# Altium schematic symbol library RP3_V302.SchLib: 44 symbols (part 2 of 2)
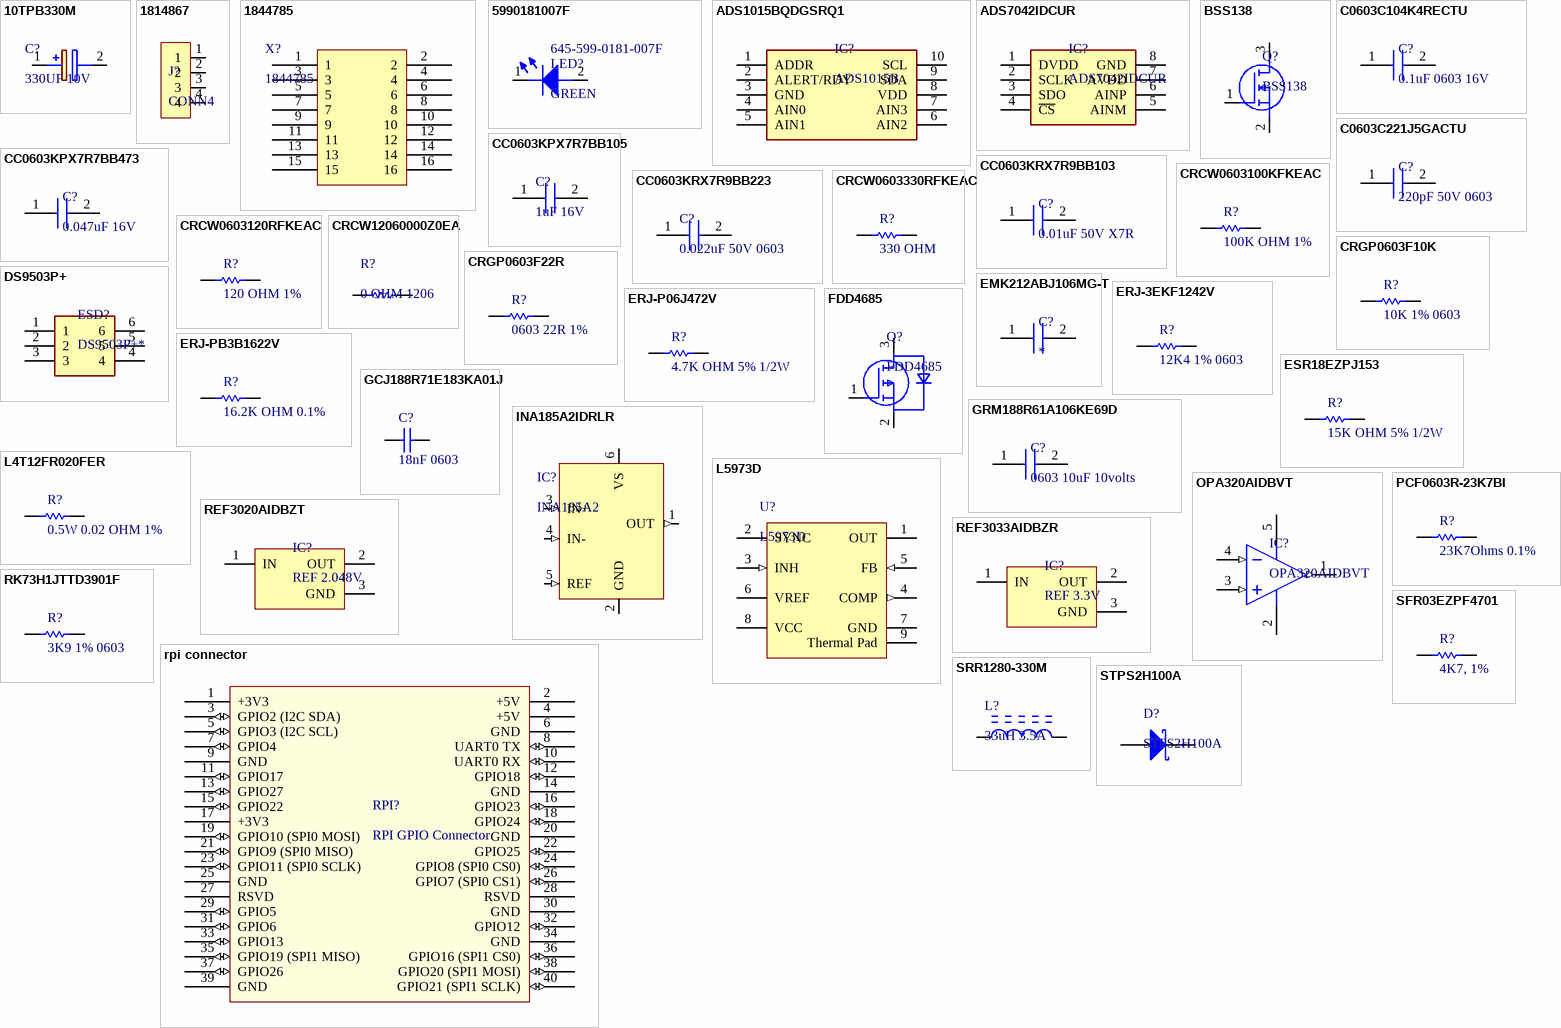
[diagram p2: symbols 10TPB330M to STPS2H100A]

## OPA320AIDBVT
designator IC?
IC OPAMP GP 20MHZ RRO SOT23-5; Manufacturer: Texas Instruments; Output Current: 65mA; Min Supply Voltage: 1.8V; Nominal Supply Current: 1.45mA; Max Supply Voltage: 5.5V; Min Dual Supply Voltage: 900mV; Max Dual Supply Voltage: 2.75V; Voltage Gain: 132dB; Common Mode Rejection Ratio: 100dB; Number of Channels: 1; Slew Rate: 10V/µs; Max I/O Voltage: 150uV; Input Bias Current: 0.9pA; Operating Supply Current: 1.5mA; Power Supply Rejection Ratio (PSRR): 106.02dB; Max Frequency: 1MHz; Supplier 1: Mouser; Manufacturer Part Number: OPA320AIDBVT; RoHS: Yes; Category: Amplifiers - Op Amps, Buffer, Instrumentation; Stock 1: 2279; Pricing 1: 1=2.39000, 10=2.03000, 100=1.62000, 500=1.42000, 1000=1.18000, 2500=1.10000, 5000=1.06000, 10000=1.02000 (USD); Case/Package: SOT-23; Number of Pins: 5; Contact Plating: Gold; Min Operating Temperature: -40°C; Max Operating Temperature: 125°C; Packaging: Tape and Reel; Unity Gain Bandwidth Product: 20MHz; Bandwidth: 20MHz; Package Quantity: 1; Operating Supply Voltage: 2.75V; Number of Circuits: 1; Gain Bandwidth Product: 20MHz; Input Offset Voltage (Vos): 150uV; Output Current per Channel: 65mA; Number of Elements: 1; Number of Amplifiers: 1; Length: 3.05mm; Height: 1.3mm; Width: 1.75mm; Radiation Hardening: No; REACH SVHC: No SVHC; Lead Free: Lead Free; ComponentLink1URL: https://datasheet.ciiva.com/1803/opa320-1803664.pdf?src-supplier=Digi-Key; ComponentLink1Description: https://datasheet.ciiva.com/1803/opa320-1803664.pdf?src-supplier=Digi-Key; ComponentLink2URL: https://datasheet.ciiva.com/7219/1481236-7219755.pdf?src-supplier=Newark; ComponentLink2Description: https://datasheet.ciiva.com/7219/1481236-7219755.pdf?src-supplier=Newark; ComponentLink3URL: https://datasheet.ciiva.com/1803/opa320-1803665.pdf?src-supplier=Digi-Key; ComponentLink3Description: https://datasheet.ciiva.com/1803/opa320-1803665.pdf?src-supplier=Digi-Key; ComponentLink4URL: https://datasheet.ciiva.com/1803/opa320-1803666.pdf?src-supplier=Digi-Key; ComponentLink4Description: https://datasheet.ciiva.com/1803/opa320-1803666.pdf?src-supplier=Digi-Key; ComponentLink5URL: https://datasheet.ciiva.com/46439/1634005-46439733.pdf?src-supplier=Element14; ComponentLink5Description: https://datasheet.ciiva.com/46439/1634005-46439733.pdf?src-supplier=Element14; Supplier Part Number 1: 595-OPA320AIDBVT
footprint DBV0005A_L (SOT23, 5-Leads, Body 3.05x1.75mm, Pitch 0.95mm, IPC High Density)
footprint DBV0005A_M (SOT23, 5-Leads, Body 3.05x1.75mm, Pitch 0.95mm, IPC Low Density)
footprint DBV0005A_N (SOT23, 5-Leads, Body 3.05x1.75mm, Pitch 0.95mm, IPC Medium Density)
pins: 1 OUT (out), 2 V- (power), 3 IN+ (in), 4 IN- (in), 5 V+ (power)

## PCF0603R-23K7BI
designator R?, comment 23K7Ohms 0.1%
Thin Film Resistors - SMD 0603 23K7Ohms 0.1% 25 PPM; Manufacturer: TT Electronics; Manufacturer Part Number: PCF0603R-23K7BI; Supplier 1: Mouser; RoHS: No; Stock 1: 7591; Pricing 1: 1=0.17000, 50=0.14000, 100=0.11200, 500=0.10300, 1000=0.08300, 2000=0.07700 (USD); Supplier Part Number 1: 756-PCF0603R23K7BI
footprint RESC1608X55X30NL10T20_B (Chip Resistor, 2-Leads, Body 1.7x0.95mm, IPC Medium Density)
pins: 1, 2

## REF3020AIDBZT
designator IC?, comment REF 2.048V
IC VREF SERIES 2.048V SOT23-3; Manufacturer: Texas Instruments; Manufacturer Part Number: REF3020AIDBZT; Min Input Voltage: 2.098V; Max Input Voltage: 5.5V; Tolerance: 0.2%; Operating Supply Current: 42uA; Max Supply Current: 50uA; Temperature Coefficient: 50ppm/°C; Output Current: 25mA; Min Output Voltage: 2.044V; Reference Type: Series,Fixed; Number of Channels: 1; Supplier 1: Mouser; RoHS: Yes; Category: Voltage References; Stock 1: 3604; Pricing 1: 1=1.60000, 10=1.36000, 100=1.05000, 500=0.92400, 1000=0.72900, 2500=0.64700, 10000=0.62300, 25000=0.60300, 50000=0.58400 (USD); Case/Package: SOT-23; Number of Pins: 3; Weight: 0.050717oz; Min Operating Temperature: -40°C; Max Operating Temperature: 125°C; Package Quantity: 1; Packaging: Tape and Reel; Output Voltage: 2.048V; Quiescent Current: 50uA; Max Output Current: 25mA; Reference Voltage: 2.048V; Max Output Voltage: 2.048V; Termination: SMD/SMT; Length: 2.92mm; Height: 1mm; Width: 1.3mm; Radiation Hardening: No; REACH SVHC: No SVHC; Lead Free: Lead Free; ComponentLink1URL: https://datasheet.ciiva.com/3235/ref3033-3235536.pdf?src-supplier=Avnet; ComponentLink1Description: https://datasheet.ciiva.com/3235/ref3033-3235536.pdf?src-supplier=Avnet; ComponentLink2URL: https://datasheet.ciiva.com/8055/1446366-8055264.pdf?src-supplier=Element14; ComponentLink2Description: https://datasheet.ciiva.com/8055/1446366-8055264.pdf?src-supplier=Element14; ComponentLink3URL: https://datasheet.ciiva.com/26888/ref3020aidbzt-26888236.pdf?src-supplier=IIIC; ComponentLink3Description: https://datasheet.ciiva.com/26888/ref3020aidbzt-26888236.pdf?src-supplier=IIIC; ComponentLink4URL: https://datasheet.ciiva.com/15149/getdatasheetpartid-238168-15149132.pdf?src-supplier=Verical; ComponentLink4Description: https://datasheet.ciiva.com/15149/getdatasheetpartid-238168-15149132.pdf?src-supplier=Verical; ComponentLink5URL: https://datasheet.ciiva.com/46383/1446366-46383050.pdf?src-supplier=Element14; ComponentLink5Description: https://datasheet.ciiva.com/46383/1446366-46383050.pdf?src-supplier=Element14; ComponentLink6URL: https://datasheet.ciiva.com/2009/ref3012-2009132.pdf?src-supplier=Digi-Key; ComponentLink6Description: https://datasheet.ciiva.com/2009/ref3012-2009132.pdf?src-supplier=Digi-Key; ComponentLink7URL: https://datasheet.ciiva.com/2009/ref3012-2009133.pdf?src-supplier=Digi-Key; ComponentLink7Description: https://datasheet.ciiva.com/2009/ref3012-2009133.pdf?src-supplier=Digi-Key; ComponentLink8URL: https://datasheet.ciiva.com/2009/ref3012-2009134.pdf?src-supplier=Digi-Key; ComponentLink8Description: https://datasheet.ciiva.com/2009/ref3012-2009134.pdf?src-supplier=Digi-Key; Supplier Part Number 1: 595-REF3020AIDBZT
footprint DBZ0003A_L (SOT23, 3-Leads, Body 3.04x1.4mm, Pitch 0.95mm, IPC High Density)
footprint DBZ0003A_M (SOT23, 3-Leads, Body 3.04x1.4mm, Pitch 0.95mm, IPC Low Density)
footprint DBZ0003A_N (SOT23, 3-Leads, Body 3.04x1.4mm, Pitch 0.95mm, IPC Medium Density)
pins: 1 IN (power), 2 OUT (power), 3 GND (power)

## REF3033AIDBZR
designator IC?, comment REF 3.3V
IC VREF SERIES 3.3V SOT23-3; Manufacturer: Texas Instruments; Manufacturer Part Number: REF3033AIDBZR; Max Input Voltage: 5.5V; Min Input Voltage: 3.35V; Tolerance: 0.2%; Output Current: 25mA; Temperature Coefficient: 50ppm/°C; Operating Supply Current: 50uA; Quiescent Current: 42uA; Output Type: Fixed; Number of Channels: 1; Supplier 1: Mouser; RoHS: Yes; Category: Voltage References; Stock 1: 9359; Pricing 1: 1=1.39000, 10=1.18000, 100=0.90800, 500=0.80200, 1000=0.63300, 3000=0.56200, 9000=0.54100, 24000=0.52400, 45000=0.50700 (USD); Case/Package: SOT-23; Number of Pins: 3; Weight: 0.050717oz; Min Operating Temperature: -40°C; Max Operating Temperature: 125°C; Packaging: Tape and Reel; Output Voltage: 3.3V; Package Quantity: 1; Min Output Voltage: 3.3V; Max Supply Current: 50uA; Max Output Current: 25mA; Max Output Voltage: 3.3V; Reference Type: Series; Reference Voltage: 3.3V; Length: 2.92mm; Height: 1mm; Width: 1.3mm; Radiation Hardening: No; Lead Free: Lead Free; REACH SVHC: No SVHC; ComponentLink1URL: https://datasheet.ciiva.com/14197/sbvs032f-14197720.pdf?src-supplier=Avnet; ComponentLink1Description: https://datasheet.ciiva.com/14197/sbvs032f-14197720.pdf?src-supplier=Avnet; ComponentLink2URL: https://datasheet.ciiva.com/26245/sbvs032f-26245055.pdf?src-supplier=Avnet+Europe; ComponentLink2Description: https://datasheet.ciiva.com/26245/sbvs032f-26245055.pdf?src-supplier=Avnet+Europe; ComponentLink3URL: https://datasheet.ciiva.com/46382/1446366-46382975.pdf?src-supplier=Element14; ComponentLink3Description: https://datasheet.ciiva.com/46382/1446366-46382975.pdf?src-supplier=Element14; ComponentLink4URL: https://datasheet.ciiva.com/2012/ref3012-2012421.pdf?src-supplier=Digi-Key; ComponentLink4Description: https://datasheet.ciiva.com/2012/ref3012-2012421.pdf?src-supplier=Digi-Key; ComponentLink5URL: https://datasheet.ciiva.com/2012/ref3012-2012422.pdf?src-supplier=Digi-Key; ComponentLink5Description: https://datasheet.ciiva.com/2012/ref3012-2012422.pdf?src-supplier=Digi-Key; ComponentLink6URL: https://datasheet.ciiva.com/2012/ref3012-2012423.pdf?src-supplier=Digi-Key; ComponentLink6Description: https://datasheet.ciiva.com/2012/ref3012-2012423.pdf?src-supplier=Digi-Key; ComponentLink7URL: https://datasheet.ciiva.com/8055/1446366-8055449.pdf?src-supplier=Element14; ComponentLink7Description: https://datasheet.ciiva.com/8055/1446366-8055449.pdf?src-supplier=Element14; ComponentLink8URL: https://datasheet.ciiva.com/41462/001014452-da-01-en-ic-vref-series-p-ref3033aidbzr-sot-3-tid-41462309.pdf?src-supplier=Conrad; ComponentLink8Description: https://datasheet.ciiva.com/41462/001014452-da-01-en-ic-vref-series-p-ref3033aidbzr-sot-3-tid-41462309.pdf?src-supplier=Conrad; Supplier Part Number 1: 595-REF3033AIDBZR
footprint DBZ0003A_L (SOT23, 3-Leads, Body 3.04x1.4mm, Pitch 0.95mm, IPC High Density)
footprint DBZ0003A_M (SOT23, 3-Leads, Body 3.04x1.4mm, Pitch 0.95mm, IPC Low Density)
footprint DBZ0003A_N (SOT23, 3-Leads, Body 3.04x1.4mm, Pitch 0.95mm, IPC Medium Density)
pins: 1 IN (power), 2 OUT (power), 3 GND (power)

## RK73H1JTTD3901F
designator R?, comment 3K9 1% 0603
RES 1/10watt 3.9Kohms 1%; Manufacturer: KOA Speer; Manufacturer Part Number: RK73H1JTTD3901F; Resistance: 3.9kR; Power Rating: 100mW; Voltage Rating: 50V; Temperature Coefficient: 100ppm/°C; Supplier 1: Digi-Key; RoHS: Yes; Category: Chip SMD Resistors; Stock 1: 130642; Pricing 1: 1=0.10000, 10=0.02200, 100=0.00910, 1000=0.00408, 2500=0.00354 (USD); Case/Package: 0603; Number of Pins: 2; Case Code (Imperial): 0603; Case Code (Metric): 1608; Min Operating Temperature: -55°C; Max Operating Temperature: 155°C; Tolerance: 1%; Packaging: Tape and Reel; Package Quantity: 5000; Composition: Thick Film; Termination: SMD/SMT; Military Standard: Not; Voltage Rating (DC): 50V; Length: 1.6mm; Height: 0.45mm; Width: 0.8mm; Depth: 0.8mm; REACH SVHC: Unknown; Lead Free: Lead Free; ComponentLink1URL: https://datasheet.ciiva.com/7773/549017-7773384.pdf?src-supplier=Element14; ComponentLink1Description: https://datasheet.ciiva.com/7773/549017-7773384.pdf?src-supplier=Element14; ComponentLink2URL: https://datasheet.ciiva.com/48426/rk73h-series-eng-jap-tds-48426598.pdf?src-supplier=Distrelec; ComponentLink2Description: https://datasheet.ciiva.com/48426/rk73h-series-eng-jap-tds-48426598.pdf?src-supplier=Distrelec; ComponentLink3URL: https://datasheet.ciiva.com/5554/rk73h-5554025.pdf?src-supplier=Mouser; ComponentLink3Description: https://datasheet.ciiva.com/5554/rk73h-5554025.pdf?src-supplier=Mouser; Supplier Part Number 1: 2019-RK73H1JTTD3901FCT-ND
footprint RESC1608X55X30NL10T20_B (Chip Resistor, 2-Leads, Body 1.7x0.95mm, IPC Medium Density)
pins: 1, 2

## rpi connector
designator RPI?, comment RPI GPIO Connector
GPIO Header for Raspberry Pi A+/B+/Pi 2/Pi 3 - 2x20; Manufacturer: SparkFun Electronics; Manufacturer Part Number: PRT-14017; Nils Minor: author; nilsminor@web.de: mail; RoHS: RoHS Compliant; Category: Development Boards, Kits, Programmers; Stock 1: 150; Pricing 1: 1=1.84 (EUR); Part Status: Active; Accessory Type: Connector; For Use With/Related Products: Raspberry Pi; ComponentLink1URL: https://cdn.sparkfun.com/datasheets/Dev/RaspberryPi/12313.pdf; ComponentLink1Description: https://cdn.sparkfun.com/datasheets/Dev/RaspberryPi/12313.pdf; Supplier 1: Digi-Key; Supplier Part Number 1: 1568-1462-ND; Supplier 2: Mouser; Supplier Part Number 2: 855-M20-7832046
footprint RPI_HEADER
pins: 1 +3V3 (power), 2 +5V (power), 3 GPIO2 (I2C SDA) (io), 4 +5V (power), 5 GPIO3 (I2C SCL) (io), 6 GND (power), 7 GPIO4 (io), 8 UART0 TX (io), 9 GND (power), 10 UART0 RX (io), 11 GPIO17 (io), 12 GPIO18 (io), 13 GPIO27 (io), 14 GND (power), 15 GPIO22 (io), 16 GPIO23 (io), 17 +3V3 (power), 18 GPIO24 (io), 19 GPIO10 (SPI0 MOSI) (io), 20 GND (power), 21 GPIO9 (SPI0 MISO) (io), 22 GPIO25 (io), 23 GPIO11 (SPI0 SCLK) (io), 24 GPIO8 (SPI0 CS0) (io), 25 GND (power), 26 GPIO7 (SPI0 CS1) (io), 27 RSVD, 28 RSVD, 29 GPIO5 (io), 30 GND (power), 31 GPIO6 (io), 32 GPIO12 (io), 33 GPIO13 (io), 34 GND, 35 GPIO19 (SPI1 MISO) (io), 36 GPIO16 (SPI1 CS0) (io), 37 GPIO26 (io), 38 GPIO20 (SPI1 MOSI) (io), 39 GND (power), 40 GPIO21 (SPI1 SCLK) (io)

## SFR03EZPF4701
designator R?, comment 4K7, 1%
ROHM -  4K7, 1%, 0603; Manufacturer Part Number: SFR03EZPF4701; Resistance: 4.7kR; Max Power Dissipation: 100mW; Temperature Coefficient: 100ppm/°C; Supplier 1: Mouser; Manufacturer: Rohm; RoHS: No; Category: Chip SMD Resistors; Stock 1: 19541; Pricing 1: 1=0.10000, 10=0.07900, 100=0.02800, 1000=0.01900, 5000=0.01500, 10000=0.01300, 25000=0.01100, 50000=0.01000, 100000=0.00900 (USD); Case/Package: 0603; Case Code (Imperial): 0603; Case Code (Metric): 1608; Min Operating Temperature: -55°C; Max Operating Temperature: 155°C; Composition: Thick Film,Metal Element; Features: Anti-Sulfur; Packaging: Tape and Reel; Tolerance: 1%; Number of Terminations: 2; ComponentLink1URL: http://www.farnell.com/datasheets/2611943.pdf?src-supplier=Farnell; ComponentLink1Description: http://www.farnell.com/datasheets/2611943.pdf?src-supplier=Farnell; ComponentLink2URL: https://www.rohm.com/datasheet/SFR03EZPF/sfr-e?src-supplier=Digi-Key; ComponentLink2Description: https://www.rohm.com/datasheet/SFR03EZPF/sfr-e?src-supplier=Digi-Key; ComponentLink3URL: http://www.farnell.com/datasheets/2611943.pdf?src-supplier=Newark; ComponentLink3Description: http://www.farnell.com/datasheets/2611943.pdf?src-supplier=Newark; Supplier Part Number 1: 755-SFR03EZPF4701
footprint RESC1608X55X30NL10T20_B (Chip Resistor, 2-Leads, Body 1.7x0.95mm, IPC Medium Density)
pins: 1, 2

## SRR1280-330M
designator L?, comment 33uH 3.5A
Ind Power Shielded Wirewound 33uH 20% 100KHz 28Q-Factor Ferrite 3.5A T/R; Manufacturer: Bourns; Manufacturer Part Number: SRR1280-330M; Material: Steel; DC Resistance (DCR): 57mR; Saturation Current: 3.3A; Self Resonant Frequency: 9.5MHz; Q Factor: 28; Supplier 1: Mouser; Supplier Part Number 1: 652-SRR1280-330M; RoHS: Yes; Category: Fixed Inductors; Stock 1: 20595; Pricing 1: 1=0.90000, 10=0.89800, 25=0.85400, 50=0.71300, 100=0.66800, 250=0.59800, 400=0.51200, 800=0.44600, 2400=0.42300 (USD); Mount: Surface Mount; Case/Package: Nonstandard; Number of Pins: 2; Core Material: Ferrite; Min Operating Temperature: -40°C; Max Operating Temperature: 125°C; Tolerance: 20%; Inductance: 33uH; Max DC Current: 3.5A; Package Quantity: 400; Current Rating: 3.5A; Shielding: Shielded; Packaging: Tape and Reel; Test Frequency: 100kHz; Termination: SMD/SMT; Composition: Wirewound; Military Standard: Not; DC Current: 3.5A; Inductance Tolerance: 20%; RMS Current (Irms): 3.5A; Resistance: 57MR; Frequency: 9.5MHz; Length: 12.5mm; Height: 7.5mm; Width: 12.5mm; Depth: 12.8mm; Height - Seated (Max): 0.315inch; Radiation Hardening: No; REACH SVHC: No SVHC; ComponentLink1URL: https://datasheet.ciiva.com/11799/0900766b80ddd400-11799870.pdf?src-supplier=RSComponents; ComponentLink1Description: https://datasheet.ciiva.com/11799/0900766b80ddd400-11799870.pdf?src-supplier=RSComponents; ComponentLink2URL: https://datasheet.ciiva.com/17112/70277071-17112985.pdf?src-supplier=Allied+Electronics; ComponentLink2Description: https://datasheet.ciiva.com/17112/70277071-17112985.pdf?src-supplier=Allied+Electronics; ComponentLink3URL: https://datasheet.ciiva.com/8512/srr1280-8512893.pdf?src-supplier=Avnet; ComponentLink3Description: https://datasheet.ciiva.com/8512/srr1280-8512893.pdf?src-supplier=Avnet; ComponentLink4URL: https://datasheet.ciiva.com/17285/srr1280-17285215.pdf?src-supplier=Avnet+Europe; ComponentLink4Description: https://datasheet.ciiva.com/17285/srr1280-17285215.pdf?src-supplier=Avnet+Europe; ComponentLink5URL: https://datasheet.ciiva.com/48488/srr1280-48488287.pdf?src-supplier=Avnet; ComponentLink5Description: https://datasheet.ciiva.com/48488/srr1280-48488287.pdf?src-supplier=Avnet; ComponentLink6URL: https://datasheet.ciiva.com/6696/srr1280-6696735.pdf?src-supplier=Digi-Key; ComponentLink6Description: https://datasheet.ciiva.com/6696/srr1280-6696735.pdf?src-supplier=Digi-Key; ComponentLink7URL: https://datasheet.ciiva.com/30162/srr1280-30162751.pdf?src-supplier=Onlinecomponents.com; ComponentLink7Description: https://datasheet.ciiva.com/30162/srr1280-30162751.pdf?src-supplier=Onlinecomponents.com
footprint BOUR-SRR1280-2_V (SMD, 2-Leads, Body 12.5x12.5mm)
pins: 1, 2

## STPS2H100A
designator D?
DIODE SCHOTTKY 100V 2A SMA; Manufacturer: STMicroelectronics; Peak Reverse Current: 1uA; Peak Non-Repetitive Surge Current: 75A; Element Configuration: Single; Forward Voltage: 650mV; Polarity: Standard; Supplier 1: Mouser; Supplier Part Number 1: 511-STPS2H100A; Manufacturer Part Number: STPS2H100A; RoHS: Yes; Category: Schottky Diodes; Stock 1: 26255; Pricing 1: 1=0.45000, 10=0.36600, 100=0.22300, 1000=0.17300, 5000=0.14700, 10000=0.13700, 25000=0.13000, 50000=0.12700, 100000=0.12200 (USD); Mount: Surface Mount; Case/Package: SMA; Number of Pins: 2; Weight: 0.01lb; Contact Plating: Tin,Matte; Min Operating Temperature: -65°C; Max Operating Temperature: 175°C; Forward Current: 2A; Max Repetitive Reverse Voltage (Vrrm): 100V; Package Quantity: 5000; Packaging: Tape and Reel; Average Rectified Current: 2A; Max Forward Surge Current (Ifsm): 75A; Max Reverse Voltage (DC): 100V; Max Surge Current: 75A; Max Reverse Leakage Current: 1uA; Voltage Rating (DC): 100V; Output Current: 2A; Current Rating: 2A; Length: 4.6mm; Height: 2.03mm; Width: 2.95mm; Radiation Hardening: No; REACH SVHC: No SVHC; Lead Free: Lead Free; ComponentLink1URL: https://datasheet.ciiva.com/14178/cd00001548-14178421.pdf?src-supplier=Distrelec; ComponentLink1Description: https://datasheet.ciiva.com/14178/cd00001548-14178421.pdf?src-supplier=Distrelec; ComponentLink2URL: https://datasheet.ciiva.com/26788/stps2h100a-26788632.pdf?src-supplier=IIIC; ComponentLink2Description: https://datasheet.ciiva.com/26788/stps2h100a-26788632.pdf?src-supplier=IIIC; ComponentLink3URL: https://datasheet.ciiva.com/916/cd00001548-916177.pdf?src-supplier=Digi-Key; ComponentLink3Description: https://datasheet.ciiva.com/916/cd00001548-916177.pdf?src-supplier=Digi-Key; ComponentLink4URL: https://datasheet.ciiva.com/916/cd00001548-916178.pdf?src-supplier=Digi-Key; ComponentLink4Description: https://datasheet.ciiva.com/916/cd00001548-916178.pdf?src-supplier=Digi-Key; ComponentLink5URL: https://datasheet.ciiva.com/916/cd00001548-916179.pdf?src-supplier=Digi-Key; ComponentLink5Description: https://datasheet.ciiva.com/916/cd00001548-916179.pdf?src-supplier=Digi-Key; ComponentLink6URL: https://datasheet.ciiva.com/7963/1724011-7963926.pdf?src-supplier=Element14; ComponentLink6Description: https://datasheet.ciiva.com/7963/1724011-7963926.pdf?src-supplier=Element14; ComponentLink7URL: https://datasheet.ciiva.com/7963/1724011-7963927.pdf?src-supplier=Element14; ComponentLink7Description: https://datasheet.ciiva.com/7963/1724011-7963927.pdf?src-supplier=Element14; ComponentLink8URL: https://datasheet.ciiva.com/16394/cd00001548-16394856.pdf?src-supplier=Future+Electronics; ComponentLink8Description: https://datasheet.ciiva.com/16394/cd00001548-16394856.pdf?src-supplier=Future+Electronics
footprint STM-SMA-2_V (Diode, 2-Leads, Body 4.6x2.9mm)
pins: 1 A, 2 K

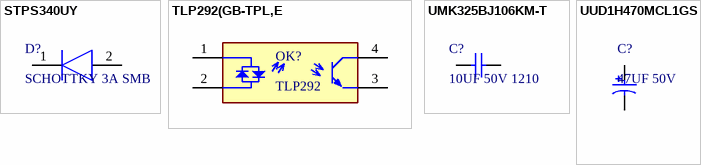
[diagram p1: symbols STPS340UY to UUD1H470MCL1GS]

## STPS340UY
designator D?, comment SCHOTTKY 3A SMB
DIODE SCHOTTKY 40V 3A SMB; Manufacturer_Name: STMicroelectronics; Manufacturer_Part_Number: STPS340UY; Peak Reverse Current: 20uA; Peak Non-Repetitive Surge Current: 75A; Element Configuration: Single; Forward Voltage: 840mV; Max Reverse Leakage Current: 10mA; Datasheet Link: https://ms.componentsearchengine.com/Datasheets/2/STPS340UY.pdf; Height: 2.65mm; Supplier 1: Mouser; Supplier Part Number 1: 511-STPS340UY; Manufacturer: STMicroelectronics; Manufacturer Part Number: STPS340UY; RoHS: Yes; Category: Rectifier Diodes; Stock 1: 8864; Pricing 1: 1=0.76000, 10=0.62700, 100=0.40400, 1000=0.32400, 2500=0.27300, 10000=0.26300, 25000=0.25300, 50000=0.24900, 100000=0.24300 (USD); Mount: Surface Mount; Case/Package: SMB; Number of Pins: 2; Min Operating Temperature: -40°C; Max Operating Temperature: 150°C; Forward Current: 3A; Max Repetitive Reverse Voltage (Vrrm): 40V; Max Surge Current: 75A; Packaging: Tape and Reel; Package Quantity: 1; Average Rectified Current: 3A; Max Reverse Voltage (DC): 40V; Radiation Hardening: No; Lead Free: Lead Free; ComponentLink1URL: https://datasheet.ciiva.com/25949/cd00270569-25949389.pdf?src-supplier=Avnet+Europe; ComponentLink1Description: https://datasheet.ciiva.com/25949/cd00270569-25949389.pdf?src-supplier=Avnet+Europe; ComponentLink2URL: https://datasheet.ciiva.com/13083/cd00270569-13083318.pdf?src-supplier=Mouser; ComponentLink2Description: https://datasheet.ciiva.com/13083/cd00270569-13083318.pdf?src-supplier=Mouser; ComponentLink3URL: https://datasheet.ciiva.com/6381/cd00270569-6381594.pdf?src-supplier=Digi-Key; ComponentLink3Description: https://datasheet.ciiva.com/6381/cd00270569-6381594.pdf?src-supplier=Digi-Key; ComponentLink4URL: https://datasheet.ciiva.com/6381/cd00270569-6381595.pdf?src-supplier=Digi-Key; ComponentLink4Description: https://datasheet.ciiva.com/6381/cd00270569-6381595.pdf?src-supplier=Digi-Key; ComponentLink5URL: https://datasheet.ciiva.com/6381/cd00270569-6381596.pdf?src-supplier=Digi-Key; ComponentLink5Description: https://datasheet.ciiva.com/6381/cd00270569-6381596.pdf?src-supplier=Digi-Key
footprint DIOM5436X265N
pins: 1 K, 2 A

## TLP292(GB-TPL,E
designator OK?, comment TLP292
OPTOISOLATOR 3.75KV TRANS 4-SO; Manufacturer: Toshiba; Manufacturer Part Number: TLP292(GB-TPL,E; Collector Emitter Voltage (VCEO): 300mV; Number of Channels: 1; Forward Voltage: 1.25V; Max Output Voltage: 80V; Output Current per Channel: 50mA; Max Power Dissipation: 200mW; Supplier 1: Mouser; RoHS: Yes; Category: Optocouplers; Stock 1: 22194; Pricing 1: 1=0.60000, 10=0.35200, 100=0.23800, 500=0.20300, 1000=0.15900, 2500=0.13200, 10000=0.12400, 25000=0.11900, 50000=0.11500 (USD); Mount: Surface Mount; Case/Package: SO; Number of Pins: 4; Min Operating Temperature: -55°C; Max Operating Temperature: 125°C; Packaging: Tape and Reel; Max Input Current: 50mA; Max Collector Current: 50mA; Collector Emitter Saturation Voltage: 300mV; Package Quantity: 1; Radiation Hardening: No; ComponentLink1URL: https://datasheet.ciiva.com/29870/tlp292-datasheet-en-20130912-29870232.pdf?src-supplier=Digi-Key; ComponentLink1Description: https://datasheet.ciiva.com/29870/tlp292-datasheet-en-20130912-29870232.pdf?src-supplier=Digi-Key; ComponentLink2URL: https://datasheet.ciiva.com/29870/tlp292-datasheet-en-20130912-29870233.pdf?src-supplier=Digi-Key; ComponentLink2Description: https://datasheet.ciiva.com/29870/tlp292-datasheet-en-20130912-29870233.pdf?src-supplier=Digi-Key; ComponentLink3URL: https://datasheet.ciiva.com/29870/tlp292-datasheet-en-20130912-29870234.pdf?src-supplier=Digi-Key; ComponentLink3Description: https://datasheet.ciiva.com/29870/tlp292-datasheet-en-20130912-29870234.pdf?src-supplier=Digi-Key; ComponentLink4URL: https://datasheet.ciiva.com/30032/tlp292-datasheet-en-20130912-30032700.pdf?src-supplier=Avnet; ComponentLink4Description: https://datasheet.ciiva.com/30032/tlp292-datasheet-en-20130912-30032700.pdf?src-supplier=Avnet; Supplier Part Number 1: 757-TLP292GB-TPLE
footprint SOIC127P700X220-4N
pins: 1 C,A, 2 A,C, 3 EMITTER, 4 COLLECTOR

## UMK325BJ106KM-T
designator C?, comment 10UF 50V 1210
CAP CER 10UF 50V X5R 1210; Manufacturer: Taiyo Yuden; Manufacturer Part Number: UMK325BJ106KM-T; Tolerance: 10%; Supplier 1: Mouser; Supplier Part Number 1: 963-UMK325BJ106KM-T; RoHS: Yes; Category: Ceramic Capacitors; Stock 1: 108389; Pricing 1: 1=0.71000, 10=0.43700, 100=0.34300, 500=0.25700, 1000=0.19800, 2500=0.18500, 5000=0.17800, 10000=0.17100, 25000=0.16700 (USD); Mount: Surface Mount; Case/Package: 1210; Number of Pins: 2; Case Code (Metric): 3225; Case Code (Imperial): 1210; Contact Plating: Nickel; Min Operating Temperature: -55°C; Max Operating Temperature: 85°C; Capacitance: 10uF; Voltage Rating: 50V; Packaging: Tape and Reel; Voltage Rating (DC): 50V; Package Quantity: 500; Dielectric: X5R; Termination: SMD/SMT; Voltage: 50V; Length: 0.126inch; Height: 2.5mm; Width: 0.098inch; Thickness: 0.106inch; Depth: 2.5mm; Radiation Hardening: No; Lead Free: Lead Free; REACH SVHC: No SVHC; Halogen Free: Halogen Free; ComponentLink1URL: https://datasheet.ciiva.com/30176/194umk325bj106km-t-30176008.pdf?src-supplier=Onlinecomponents.com; ComponentLink1Description: https://datasheet.ciiva.com/30176/194umk325bj106km-t-30176008.pdf?src-supplier=Onlinecomponents.com; ComponentLink2URL: https://datasheet.ciiva.com/30051/155umk325bj106km-t-30051915.pdf?src-supplier=Onlinecomponents.com; ComponentLink2Description: https://datasheet.ciiva.com/30051/155umk325bj106km-t-30051915.pdf?src-supplier=Onlinecomponents.com; ComponentLink3URL: https://datasheet.ciiva.com/7975/1497285-7975566.pdf?src-supplier=Element14; ComponentLink3Description: https://datasheet.ciiva.com/7975/1497285-7975566.pdf?src-supplier=Element14; ComponentLink4URL: https://datasheet.ciiva.com/15922/cmultilayerceramiccapacitor-15922702.pdf?src-supplier=Onlinecomponents.com; ComponentLink4Description: https://datasheet.ciiva.com/15922/cmultilayerceramiccapacitor-15922702.pdf?src-supplier=Onlinecomponents.com; ComponentLink5URL: https://datasheet.ciiva.com/22748/1910934-22748126.pdf?src-supplier=Element14; ComponentLink5Description: https://datasheet.ciiva.com/22748/1910934-22748126.pdf?src-supplier=Element14; ComponentLink6URL: https://datasheet.ciiva.com/141/mlcc-all-e-141385.pdf?src-supplier=Digi-Key; ComponentLink6Description: https://datasheet.ciiva.com/141/mlcc-all-e-141385.pdf?src-supplier=Digi-Key; ComponentLink7URL: https://datasheet.ciiva.com/141/mlcc-all-e-141386.pdf?src-supplier=Digi-Key; ComponentLink7Description: https://datasheet.ciiva.com/141/mlcc-all-e-141386.pdf?src-supplier=Digi-Key; ComponentLink8URL: https://datasheet.ciiva.com/22694/1497285-22694282.pdf?src-supplier=Element14; ComponentLink8Description: https://datasheet.ciiva.com/22694/1497285-22694282.pdf?src-supplier=Element14; ComponentLink9URL: https://datasheet.ciiva.com/141/mlcc-all-e-141387.pdf?src-supplier=Digi-Key; ComponentLink9Description: https://datasheet.ciiva.com/141/mlcc-all-e-141387.pdf?src-supplier=Digi-Key; ComponentLink10URL: https://datasheet.ciiva.com/5412/mlcc01-e-5412012.pdf?src-supplier=Mouser; ComponentLink10Description: https://datasheet.ciiva.com/5412/mlcc01-e-5412012.pdf?src-supplier=Mouser
footprint CAPC3225X270X60ML30T30 (Chip Capacitor, 2-Leads, Body 3.50x2.70mm, IPC Low Density)
pins: 1, 2

## UUD1H470MCL1GS
designator C?, comment 47UF 50V
CAP ALUM 47UF 20% 50V SMD; Manufacturer: Nichicon; Manufacturer Part Number: UUD1H470MCL1GS; Dielectric Material: Aluminium; Ripple Current: 185mA; Impedance: 680mR; Leakage Current: 3uA; Life (Hours): 2000Hour; Dissipation Factor: 0.12%; Lead Diameter: 0.8mm; Supplier 1: Mouser; Supplier Part Number 1: 647-UUD1H470MCL; RoHS: Yes; Category: Aluminum Electrolytic Capacitors; Stock 1: 20030; Pricing 1: 1=0.47000, 10=0.34000, 25=0.29000, 100=0.22400, 250=0.19900, 500=0.16600 (USD); Case/Package: Radial; Number of Pins: 2; Contact Plating: Tin; Min Operating Temperature: -55°C; Max Operating Temperature: 105°C; Tolerance: 20%; Capacitance: 47uF; Ripple Current (AC): 185mA; Voltage Rating (DC): 50V; Package Quantity: 1; Packaging: Tape and Reel; Voltage Rating: 50V; Termination: SMD/SMT; Voltage: 50V; Diameter: 6.3mm; Length: 7.7mm; Height: 7.7mm; Lead Pitch: 2.2mm; Height - Seated (Max): 0.303inch; Radiation Hardening: No; REACH SVHC: Unknown; Lead Free: Lead Free; ComponentLink1URL: https://datasheet.ciiva.com/11781/0900766b80fa39e7-11781892.pdf?src-supplier=RSComponents; ComponentLink1Description: https://datasheet.ciiva.com/11781/0900766b80fa39e7-11781892.pdf?src-supplier=RSComponents; ComponentLink2URL: https://datasheet.ciiva.com/30522/getdatasheetpartid-442259-30522079.pdf?src-supplier=Verical; ComponentLink2Description: https://datasheet.ciiva.com/30522/getdatasheetpartid-442259-30522079.pdf?src-supplier=Verical; ComponentLink3URL: https://datasheet.ciiva.com/97/e-ud-97362.pdf?src-supplier=Digi-Key; ComponentLink3Description: https://datasheet.ciiva.com/97/e-ud-97362.pdf?src-supplier=Digi-Key; ComponentLink4URL: https://datasheet.ciiva.com/97/e-ud-97363.pdf?src-supplier=Digi-Key; ComponentLink4Description: https://datasheet.ciiva.com/97/e-ud-97363.pdf?src-supplier=Digi-Key; ComponentLink5URL: https://datasheet.ciiva.com/97/e-ud-97364.pdf?src-supplier=Digi-Key; ComponentLink5Description: https://datasheet.ciiva.com/97/e-ud-97364.pdf?src-supplier=Digi-Key; ComponentLink6URL: https://datasheet.ciiva.com/7781/e-ud-7781701.pdf?src-supplier=Element14; ComponentLink6Description: https://datasheet.ciiva.com/7781/e-ud-7781701.pdf?src-supplier=Element14; ComponentLink7URL: https://datasheet.ciiva.com/11686/e-ud-11686524.pdf?src-supplier=Avnet; ComponentLink7Description: https://datasheet.ciiva.com/11686/e-ud-11686524.pdf?src-supplier=Avnet; ComponentLink8URL: https://datasheet.ciiva.com/7781/66055-7781453.pdf?src-supplier=Element14; ComponentLink8Description: https://datasheet.ciiva.com/7781/66055-7781453.pdf?src-supplier=Element14; ComponentLink9URL: https://datasheet.ciiva.com/5360/e-ud-5360437.pdf?src-supplier=Mouser; ComponentLink9Description: https://datasheet.ciiva.com/5360/e-ud-5360437.pdf?src-supplier=Mouser; ComponentLink10URL: https://datasheet.ciiva.com/16393/e-ud-16393564.pdf?src-supplier=Future+Electronics; ComponentLink10Description: https://datasheet.ciiva.com/16393/e-ud-16393564.pdf?src-supplier=Future+Electronics
footprint NIC-CAPA2-6.3X7.7_V (Aluminum Electrolytic Capacitor, Diameter 6.3mm, Height 8mm, Pitch 5.4mm)
pins: 1, 2